# Altium schematic symbol library MAX-M10S-00B.SchLib: 1 symbol
Pins are listed as number, name and electrical type; pins without a type are passive.

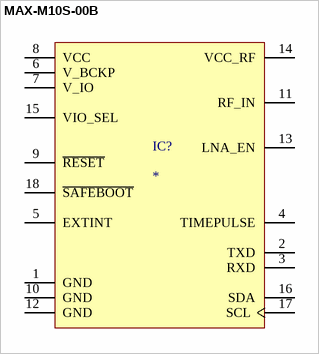
[diagram p0: symbol MAX-M10S-00B]

## MAX-M10S-00B
designator IC?
MP: MAX-M10S-00B; Package: None; Price: None; Value: *; Availability: Unavailable
footprint XCVR_MAX-M10S-00B
pins: 1 GND (power), 2 TXD, 3 RXD, 4 TIMEPULSE, 5 EXTINT, 6 V_BCKP (power), 7 V_IO (power), 8 VCC (power), 9 ~{RESET}, 10 GND (power), 11 RF_IN, 12 GND (power), 13 LNA_EN, 14 VCC_RF (power), 15 VIO_SEL, 16 SDA, 17 SCL, 18 ~{SAFEBOOT}